# Altium footprint library WR-FPC_1.00mm.PcbLib: 115 footprints (part 2 of 8)
Each footprint in its own frame and in the unit in brackets; x right, y up, seen from the top. Pads: shape width x height; smd on the part's side, far side on the other; paste and mask are expansions set on the pad; w line width, h text height; cw(c..) or ccw(c..) is an arc to the next point about the centre after c.
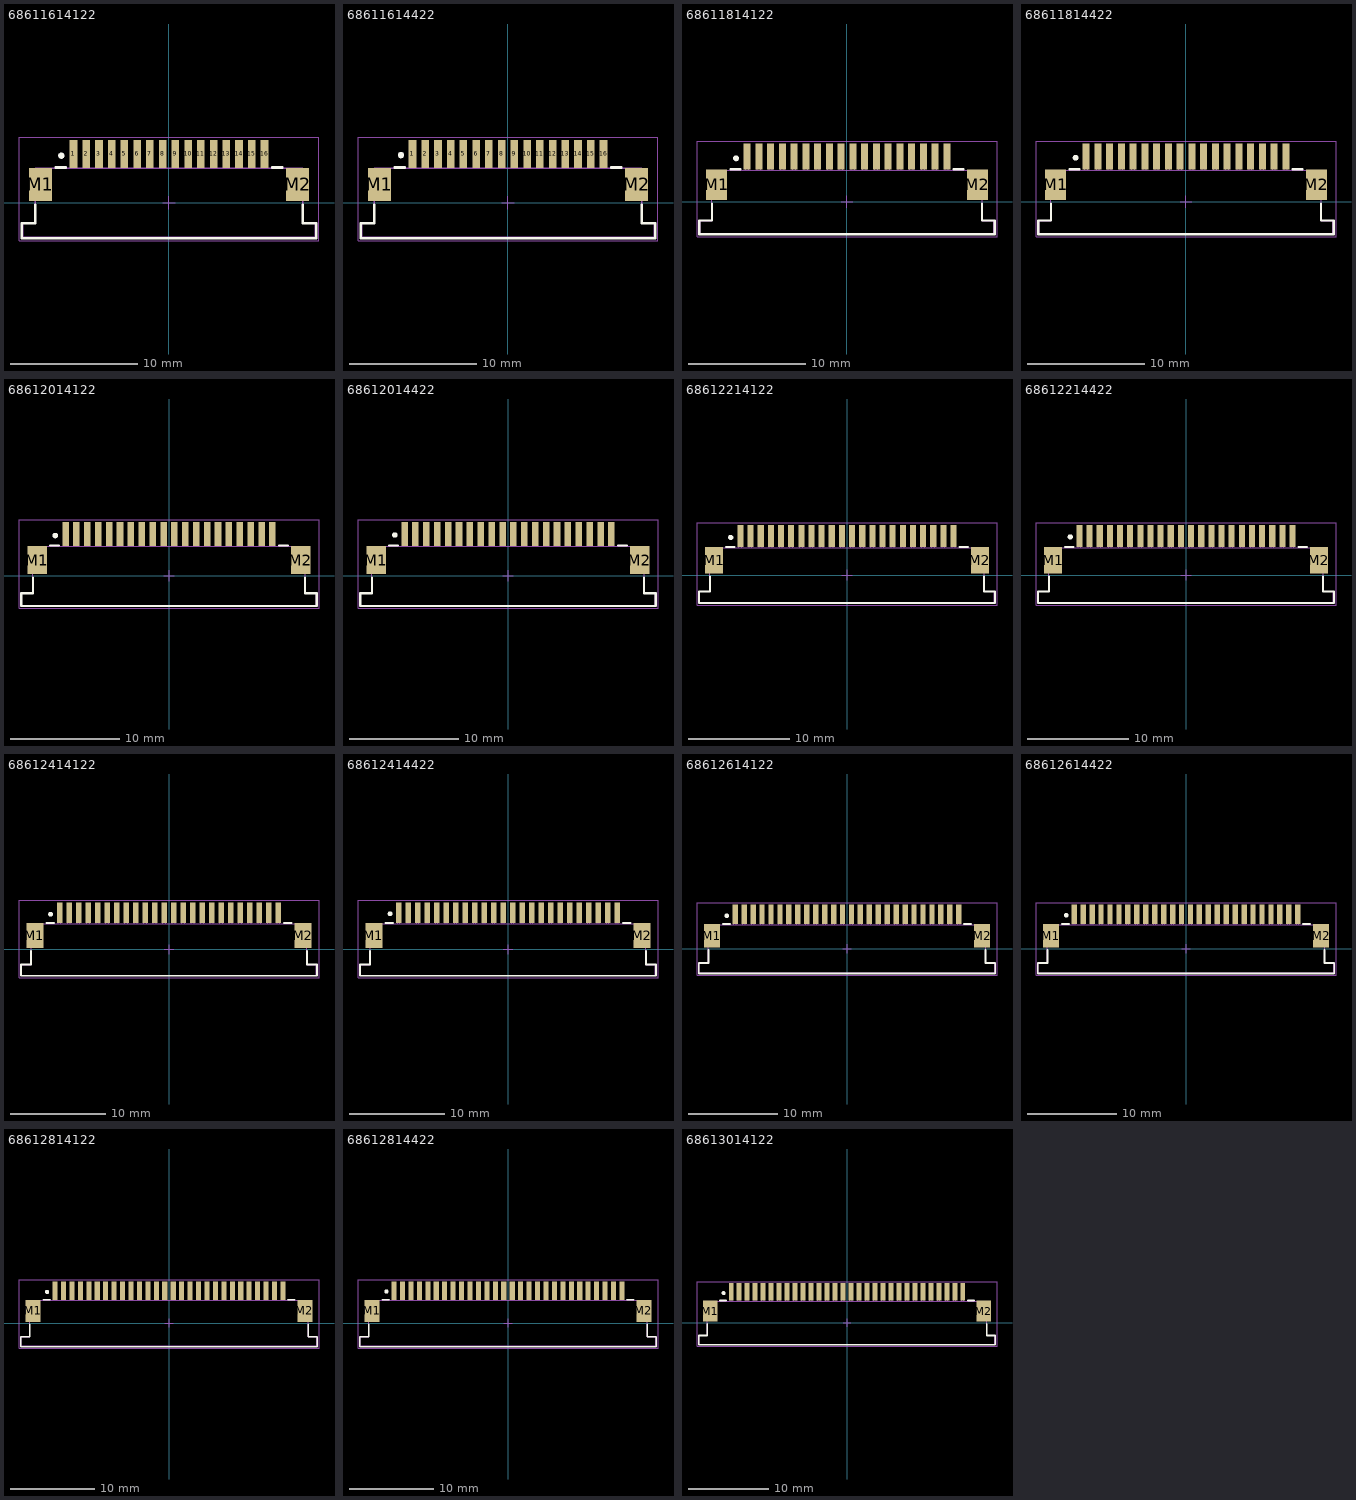
[diagram p1: the footprints below, top view; thin cyan lines are the x and y axes]

## 68611614122 [mm] "ZIF Connectors, Horizontal, Top Contact, pitch 1mm, 16p"
height 3.15
pads (18):
  rect 0.6x2.2 smd: 1(-7.5,3.85) 2(-6.5,3.85) 3(-5.5,3.85) 4(-4.5,3.85) 5(-3.5,3.85) 6(-2.5,3.85) 7(-1.5,3.85) 8(-0.5,3.85) 9(0.5,3.85) 10(1.5,3.85) 11(2.5,3.85) 12(3.5,3.85) 13(4.5,3.85) 14(5.5,3.85) 15(6.5,3.85) 16(7.5,3.85)
  rect 1.8x2.6 smd: M1(-10.1,1.45) M2(10.1,1.45)
Top Overlay:
  circle w0.25: c-8.45,3.7 r0.125
  lines w0.2: -10.5,-0.15 -10.5,-1.6 -11.575,-1.6 -11.575,-2.775 11.575,-2.775 11.575,-1.6 10.5,-1.6 10.5,-0.15 ; -8.9,2.775 -8.1,2.775 ; 8.1,2.775 8.9,2.775
Top Designator:
  text ".Designator" at -7.498,-0.5 h1.5
Top Component Outline:
  lines w0.1: -7.64,2.7 -7.64,4.4 -7.36,4.4 -7.36,2.7 ; -6.64,2.7 -6.64,4.4 -6.36,4.4 -6.36,2.7 ; -5.64,2.7 -5.64,4.4 -5.36,4.4 -5.36,2.7 ; -4.64,2.7 -4.64,4.4 -4.36,4.4 -4.36,2.7 ; -3.64,2.7 -3.64,4.4 -3.36,4.4 -3.36,2.7 ; -2.64,2.7 -2.64,4.4 -2.36,4.4 -2.36,2.7 ; -1.64,2.7 -1.64,4.4 -1.36,4.4 -1.36,2.7 ; -0.64,2.7 -0.64,4.4 -0.36,4.4 -0.36,2.7 ; 0.36,2.7 0.36,4.4 0.64,4.4 0.64,2.7 ; 1.36,2.7 1.36,4.4 1.64,4.4 1.64,2.7 ; 2.36,2.7 2.36,4.4 2.64,4.4 2.64,2.7 ; 3.36,2.7 3.36,4.4 3.64,4.4 3.64,2.7 ; 4.36,2.7 4.36,4.4 4.64,4.4 4.64,2.7 ; 5.36,2.7 5.36,4.4 5.64,4.4 5.64,2.7 ; 6.36,2.7 6.36,4.4 6.64,4.4 6.64,2.7 ; 7.36,2.7 7.36,4.4 7.64,4.4 7.64,2.7 ; -11.5,-2.7 -11.5,-1.6 -10.5,-1.6 -10.5,2.7 10.5,2.7 10.5,-1.6 11.5,-1.6 11.5,-2.7 -11.5,-2.7
Top 3D Body:
  lines w0.1: -7.64,2.7 -7.64,4.4 -7.36,4.4 -7.36,2.7 ; -6.64,2.7 -6.64,4.4 -6.36,4.4 -6.36,2.7 ; -5.64,2.7 -5.64,4.4 -5.36,4.4 -5.36,2.7 ; -4.64,2.7 -4.64,4.4 -4.36,4.4 -4.36,2.7 ; -3.64,2.7 -3.64,4.4 -3.36,4.4 -3.36,2.7 ; -2.64,2.7 -2.64,4.4 -2.36,4.4 -2.36,2.7 ; -1.64,2.7 -1.64,4.4 -1.36,4.4 -1.36,2.7 ; -0.64,2.7 -0.64,4.4 -0.36,4.4 -0.36,2.7 ; 0.36,2.7 0.36,4.4 0.64,4.4 0.64,2.7 ; 1.36,2.7 1.36,4.4 1.64,4.4 1.64,2.7 ; 2.36,2.7 2.36,4.4 2.64,4.4 2.64,2.7 ; 3.36,2.7 3.36,4.4 3.64,4.4 3.64,2.7 ; 4.36,2.7 4.36,4.4 4.64,4.4 4.64,2.7 ; 5.36,2.7 5.36,4.4 5.64,4.4 5.64,2.7 ; 6.36,2.7 6.36,4.4 6.64,4.4 6.64,2.7 ; 7.36,2.7 7.36,4.4 7.64,4.4 7.64,2.7 ; -11.5,-2.7 11.5,-2.7 11.5,-1.6 10.5,-1.6 10.5,2.7 -10.5,2.7 -10.5,-1.6 -11.5,-1.6 -11.5,-2.7
Top Courtyard:
  lines w0.05: -0.5,0 0.5,0 ; 0,-0.5 0,0.5 ; -11.775,-2.975 11.775,-2.975 11.775,5.15 -11.775,5.15 -11.775,-2.975
3D body "68611614122.stp": height 3.02, standoff 0.02, extent -11.5,-2.7 11.5,4.4

## 68611614422 [mm] "ZIF Connectors, Horizontal, Bottom Contact, pitch 1mm, 16p"
height 3.15
pads (18):
  rect 0.6x2.2 smd: 1(-7.5,3.85) 2(-6.5,3.85) 3(-5.5,3.85) 4(-4.5,3.85) 5(-3.5,3.85) 6(-2.5,3.85) 7(-1.5,3.85) 8(-0.5,3.85) 9(0.5,3.85) 10(1.5,3.85) 11(2.5,3.85) 12(3.5,3.85) 13(4.5,3.85) 14(5.5,3.85) 15(6.5,3.85) 16(7.5,3.85)
  rect 1.8x2.6 smd: M1(-10.1,1.45) M2(10.1,1.45)
Top Overlay:
  circle w0.25: c-8.4,3.75 r0.125
  lines w0.2: -10.5,-0.15 -10.5,-1.6 -11.575,-1.6 -11.575,-2.775 11.575,-2.775 11.575,-1.6 10.5,-1.6 10.5,-0.15 ; -8.9,2.775 -8.1,2.775 ; 8.1,2.775 8.9,2.775
Top Designator:
  text ".Designator" at -7.498,-0.5 h1.5
Top Component Outline:
  lines w0.1: -7.62,2.7 -7.62,4.4 -7.38,4.4 -7.38,2.7 ; -6.62,2.7 -6.62,4.4 -6.38,4.4 -6.38,2.7 ; -5.62,2.7 -5.62,4.4 -5.38,4.4 -5.38,2.7 ; -4.62,2.7 -4.62,4.4 -4.38,4.4 -4.38,2.7 ; -3.62,2.7 -3.62,4.4 -3.38,4.4 -3.38,2.7 ; -2.62,2.7 -2.62,4.4 -2.38,4.4 -2.38,2.7 ; -1.62,2.7 -1.62,4.4 -1.38,4.4 -1.38,2.7 ; -0.62,2.7 -0.62,4.4 -0.38,4.4 -0.38,2.7 ; 0.38,2.7 0.38,4.4 0.62,4.4 0.62,2.7 ; 1.38,2.7 1.38,4.4 1.62,4.4 1.62,2.7 ; 2.38,2.7 2.38,4.4 2.62,4.4 2.62,2.7 ; 3.38,2.7 3.38,4.4 3.62,4.4 3.62,2.7 ; 4.38,2.7 4.38,4.4 4.62,4.4 4.62,2.7 ; 5.38,2.7 5.38,4.4 5.62,4.4 5.62,2.7 ; 6.38,2.7 6.38,4.4 6.62,4.4 6.62,2.7 ; 7.38,2.7 7.38,4.4 7.62,4.4 7.62,2.7 ; -11.5,-2.7 11.5,-2.7 11.5,-1.6 10.5,-1.6 10.5,2.7 -10.5,2.7 -10.5,-1.6 -11.5,-1.6 -11.5,-2.7
Top 3D Body:
  lines w0.1: -7.62,2.7 -7.62,4.4 -7.38,4.4 -7.38,2.7 ; -6.62,2.7 -6.62,4.4 -6.38,4.4 -6.38,2.7 ; -5.62,2.7 -5.62,4.4 -5.38,4.4 -5.38,2.7 ; -4.62,2.7 -4.62,4.4 -4.38,4.4 -4.38,2.7 ; -3.62,2.7 -3.62,4.4 -3.38,4.4 -3.38,2.7 ; -2.62,2.7 -2.62,4.4 -2.38,4.4 -2.38,2.7 ; -1.62,2.7 -1.62,4.4 -1.38,4.4 -1.38,2.7 ; -0.62,2.7 -0.62,4.4 -0.38,4.4 -0.38,2.7 ; 0.38,2.7 0.38,4.4 0.62,4.4 0.62,2.7 ; 1.38,2.7 1.38,4.4 1.62,4.4 1.62,2.7 ; 2.38,2.7 2.38,4.4 2.62,4.4 2.62,2.7 ; 3.38,2.7 3.38,4.4 3.62,4.4 3.62,2.7 ; 4.38,2.7 4.38,4.4 4.62,4.4 4.62,2.7 ; 5.38,2.7 5.38,4.4 5.62,4.4 5.62,2.7 ; 6.38,2.7 6.38,4.4 6.62,4.4 6.62,2.7 ; 7.38,2.7 7.38,4.4 7.62,4.4 7.62,2.7 ; -11.5,-2.7 -11.5,-1.6 -10.5,-1.6 -10.5,2.7 10.5,2.7 10.5,-1.6 11.5,-1.6 11.5,-2.7 -11.5,-2.7
Top Courtyard:
  lines w0.05: -0.5,0 0.5,0 ; 0,-0.5 0,0.5 ; -11.775,-2.975 11.775,-2.975 11.775,5.15 -11.775,5.15 -11.775,-2.975
3D body "68611614422.stp": height 3.02, standoff 0.01, extent -11.5,-2.7 11.5,4.4

## 68611814122 [mm] "ZIF Connectors, Horizontal, Top Contact, pitch 1mm, 18p"
height 3.15
pads (20):
  rect 0.6x2.2 smd: 1(-8.5,3.85) 2(-7.5,3.85) 3(-6.5,3.85) 4(-5.5,3.85) 5(-4.5,3.85) 6(-3.5,3.85) 7(-2.5,3.85) 8(-1.5,3.85) 9(-0.5,3.85) 10(0.5,3.85) 11(1.5,3.85) 12(2.5,3.85) 13(3.5,3.85) 14(4.5,3.85) 15(5.5,3.85) 16(6.5,3.85) 17(7.5,3.85) 18(8.5,3.85)
  rect 1.8x2.6 smd: M1(-11.1,1.45) M2(11.1,1.45)
Top Overlay:
  circle w0.25: c-9.45,3.7 r0.125
  lines w0.2: -11.5,-0.15 -11.5,-1.6 -12.575,-1.6 -12.575,-2.775 12.575,-2.775 12.575,-1.6 11.5,-1.6 11.5,-0.15 ; -9.9,2.775 -9.1,2.775 ; 9.1,2.775 9.9,2.775
Top Designator:
  text ".Designator" at -7.498,-0.5 h1.5
Top Component Outline:
  lines w0.1: -8.64,2.7 -8.64,4.4 -8.36,4.4 -8.36,2.7 ; -7.64,2.7 -7.64,4.4 -7.36,4.4 -7.36,2.7 ; -6.64,2.7 -6.64,4.4 -6.36,4.4 -6.36,2.7 ; -5.64,2.7 -5.64,4.4 -5.36,4.4 -5.36,2.7 ; -4.64,2.7 -4.64,4.4 -4.36,4.4 -4.36,2.7 ; -3.64,2.7 -3.64,4.4 -3.36,4.4 -3.36,2.7 ; -2.64,2.7 -2.64,4.4 -2.36,4.4 -2.36,2.7 ; -1.64,2.7 -1.64,4.4 -1.36,4.4 -1.36,2.7 ; -0.64,2.7 -0.64,4.4 -0.36,4.4 -0.36,2.7 ; 0.36,2.7 0.36,4.4 0.64,4.4 0.64,2.7 ; 1.36,2.7 1.36,4.4 1.64,4.4 1.64,2.7 ; 2.36,2.7 2.36,4.4 2.64,4.4 2.64,2.7 ; 3.36,2.7 3.36,4.4 3.64,4.4 3.64,2.7 ; 4.36,2.7 4.36,4.4 4.64,4.4 4.64,2.7 ; 5.36,2.7 5.36,4.4 5.64,4.4 5.64,2.7 ; 6.36,2.7 6.36,4.4 6.64,4.4 6.64,2.7 ; 7.36,2.7 7.36,4.4 7.64,4.4 7.64,2.7 ; 8.36,2.7 8.36,4.4 8.64,4.4 8.64,2.7 ; -12.5,-2.7 12.5,-2.7 12.5,-1.6 11.5,-1.6 11.5,2.7 -11.5,2.7 -11.5,-1.6 -12.5,-1.6 -12.5,-2.7
Top 3D Body:
  lines w0.1: -8.64,2.7 -8.64,4.4 -8.36,4.4 -8.36,2.7 ; -7.64,2.7 -7.64,4.4 -7.36,4.4 -7.36,2.7 ; -6.64,2.7 -6.64,4.4 -6.36,4.4 -6.36,2.7 ; -5.64,2.7 -5.64,4.4 -5.36,4.4 -5.36,2.7 ; -4.64,2.7 -4.64,4.4 -4.36,4.4 -4.36,2.7 ; -3.64,2.7 -3.64,4.4 -3.36,4.4 -3.36,2.7 ; -2.64,2.7 -2.64,4.4 -2.36,4.4 -2.36,2.7 ; -1.64,2.7 -1.64,4.4 -1.36,4.4 -1.36,2.7 ; -0.64,2.7 -0.64,4.4 -0.36,4.4 -0.36,2.7 ; 0.36,2.7 0.36,4.4 0.64,4.4 0.64,2.7 ; 1.36,2.7 1.36,4.4 1.64,4.4 1.64,2.7 ; 2.36,2.7 2.36,4.4 2.64,4.4 2.64,2.7 ; 3.36,2.7 3.36,4.4 3.64,4.4 3.64,2.7 ; 4.36,2.7 4.36,4.4 4.64,4.4 4.64,2.7 ; 5.36,2.7 5.36,4.4 5.64,4.4 5.64,2.7 ; 6.36,2.7 6.36,4.4 6.64,4.4 6.64,2.7 ; 7.36,2.7 7.36,4.4 7.64,4.4 7.64,2.7 ; 8.36,2.7 8.36,4.4 8.64,4.4 8.64,2.7 ; -12.5,-2.7 -12.5,-1.6 -11.5,-1.6 -11.5,2.7 11.5,2.7 11.5,-1.6 12.5,-1.6 12.5,-2.7 -12.5,-2.7
Top Courtyard:
  lines w0.05: -0.5,0 0.5,0 ; 0,-0.5 0,0.5 ; -12.775,-2.975 -12.775,5.15 12.775,5.15 12.775,-2.975 -12.775,-2.975
3D body "68611814122.stp": height 3.02, standoff 0.02, extent -12.5,-2.7 12.5,4.4

## 68611814422 [mm] "ZIF Connectors, Horizontal, Bottom Contact, pitch 1mm, 18p"
height 3.15
pads (20):
  rect 0.6x2.2 smd: 1(-8.5,3.85) 2(-7.5,3.85) 3(-6.5,3.85) 4(-5.5,3.85) 5(-4.5,3.85) 6(-3.5,3.85) 7(-2.5,3.85) 8(-1.5,3.85) 9(-0.5,3.85) 10(0.5,3.85) 11(1.5,3.85) 12(2.5,3.85) 13(3.5,3.85) 14(4.5,3.85) 15(5.5,3.85) 16(6.5,3.85) 17(7.5,3.85) 18(8.5,3.85)
  rect 1.8x2.6 smd: M1(-11.1,1.45) M2(11.1,1.45)
Top Overlay:
  circle w0.25: c-9.4,3.75 r0.125
  lines w0.2: -11.5,-0.15 -11.5,-1.6 -12.575,-1.6 -12.575,-2.775 12.575,-2.775 12.575,-1.6 11.5,-1.6 11.5,-0.15 ; -9.9,2.775 -9.1,2.775 ; 9.1,2.775 9.9,2.775
Top Designator:
  text ".Designator" at -7.498,-0.5 h1.5
Top Component Outline:
  lines w0.1: -8.62,2.7 -8.62,4.4 -8.38,4.4 -8.38,2.7 ; -7.62,2.7 -7.62,4.4 -7.38,4.4 -7.38,2.7 ; -6.62,2.7 -6.62,4.4 -6.38,4.4 -6.38,2.7 ; -5.62,2.7 -5.62,4.4 -5.38,4.4 -5.38,2.7 ; -4.62,2.7 -4.62,4.4 -4.38,4.4 -4.38,2.7 ; -3.62,2.7 -3.62,4.4 -3.38,4.4 -3.38,2.7 ; -2.62,2.7 -2.62,4.4 -2.38,4.4 -2.38,2.7 ; -1.62,2.7 -1.62,4.4 -1.38,4.4 -1.38,2.7 ; -0.62,2.7 -0.62,4.4 -0.38,4.4 -0.38,2.7 ; 0.38,2.7 0.38,4.4 0.62,4.4 0.62,2.7 ; 1.38,2.7 1.38,4.4 1.62,4.4 1.62,2.7 ; 2.38,2.7 2.38,4.4 2.62,4.4 2.62,2.7 ; 3.38,2.7 3.38,4.4 3.62,4.4 3.62,2.7 ; 4.38,2.7 4.38,4.4 4.62,4.4 4.62,2.7 ; 5.38,2.7 5.38,4.4 5.62,4.4 5.62,2.7 ; 6.38,2.7 6.38,4.4 6.62,4.4 6.62,2.7 ; 7.38,2.7 7.38,4.4 7.62,4.4 7.62,2.7 ; 8.38,2.7 8.38,4.4 8.62,4.4 8.62,2.7 ; -12.5,-2.7 -12.5,-1.6 -11.5,-1.6 -11.5,2.7 11.5,2.7 11.5,-1.6 12.5,-1.6 12.5,-2.7 -12.5,-2.7
Top 3D Body:
  lines w0.1: -8.62,2.7 -8.62,4.4 -8.38,4.4 -8.38,2.7 ; -7.62,2.7 -7.62,4.4 -7.38,4.4 -7.38,2.7 ; -6.62,2.7 -6.62,4.4 -6.38,4.4 -6.38,2.7 ; -5.62,2.7 -5.62,4.4 -5.38,4.4 -5.38,2.7 ; -4.62,2.7 -4.62,4.4 -4.38,4.4 -4.38,2.7 ; -3.62,2.7 -3.62,4.4 -3.38,4.4 -3.38,2.7 ; -2.62,2.7 -2.62,4.4 -2.38,4.4 -2.38,2.7 ; -1.62,2.7 -1.62,4.4 -1.38,4.4 -1.38,2.7 ; -0.62,2.7 -0.62,4.4 -0.38,4.4 -0.38,2.7 ; 0.38,2.7 0.38,4.4 0.62,4.4 0.62,2.7 ; 1.38,2.7 1.38,4.4 1.62,4.4 1.62,2.7 ; 2.38,2.7 2.38,4.4 2.62,4.4 2.62,2.7 ; 3.38,2.7 3.38,4.4 3.62,4.4 3.62,2.7 ; 4.38,2.7 4.38,4.4 4.62,4.4 4.62,2.7 ; 5.38,2.7 5.38,4.4 5.62,4.4 5.62,2.7 ; 6.38,2.7 6.38,4.4 6.62,4.4 6.62,2.7 ; 7.38,2.7 7.38,4.4 7.62,4.4 7.62,2.7 ; 8.38,2.7 8.38,4.4 8.62,4.4 8.62,2.7 ; -12.5,-2.7 12.5,-2.7 12.5,-1.6 11.5,-1.6 11.5,2.7 -11.5,2.7 -11.5,-1.6 -12.5,-1.6 -12.5,-2.7
Top Courtyard:
  lines w0.05: -0.5,0 0.5,0 ; 0,-0.5 0,0.5 ; -12.775,-2.975 -12.775,5.15 12.775,5.15 12.775,-2.975 -12.775,-2.975
3D body "68611814422.stp": height 3.02, standoff 0.01, extent -12.5,-2.7 12.5,4.4

## 68612014122 [mm] "ZIF Connectors, Horizontal, Top Contact, pitch 1mm, 20p"
height 3.15
pads (22):
  rect 0.6x2.2 smd: 1(-9.5,3.85) 2(-8.5,3.85) 3(-7.5,3.85) 4(-6.5,3.85) 5(-5.5,3.85) 6(-4.5,3.85) 7(-3.5,3.85) 8(-2.5,3.85) 9(-1.5,3.85) 10(-0.5,3.85) 11(0.5,3.85) 12(1.5,3.85) 13(2.5,3.85) 14(3.5,3.85) 15(4.5,3.85) 16(5.5,3.85) 17(6.5,3.85) 18(7.5,3.85) 19(8.5,3.85) 20(9.5,3.85)
  rect 1.8x2.6 smd: M1(-12.1,1.45) M2(12.1,1.45)
Top Overlay:
  circle w0.25: c-10.45,3.7 r0.125
  lines w0.2: -12.5,-0.15 -12.5,-1.6 -13.575,-1.6 -13.575,-2.775 13.575,-2.775 13.575,-1.6 12.5,-1.6 12.5,-0.15 ; -10.9,2.775 -10.1,2.775 ; 10.1,2.775 10.9,2.775
Top Designator:
  text ".Designator" at -7.498,-0.5 h1.5
Top Component Outline:
  lines w0.1: -9.64,2.7 -9.64,4.4 -9.36,4.4 -9.36,2.7 ; -8.64,2.7 -8.64,4.4 -8.36,4.4 -8.36,2.7 ; -7.64,2.7 -7.64,4.4 -7.36,4.4 -7.36,2.7 ; -6.64,2.7 -6.64,4.4 -6.36,4.4 -6.36,2.7 ; -5.64,2.7 -5.64,4.4 -5.36,4.4 -5.36,2.7 ; -4.64,2.7 -4.64,4.4 -4.36,4.4 -4.36,2.7 ; -3.64,2.7 -3.64,4.4 -3.36,4.4 -3.36,2.7 ; -2.64,2.7 -2.64,4.4 -2.36,4.4 -2.36,2.7 ; -1.64,2.7 -1.64,4.4 -1.36,4.4 -1.36,2.7 ; -0.64,2.7 -0.64,4.4 -0.36,4.4 -0.36,2.7 ; 0.36,2.7 0.36,4.4 0.64,4.4 0.64,2.7 ; 1.36,2.7 1.36,4.4 1.64,4.4 1.64,2.7 ; 2.36,2.7 2.36,4.4 2.64,4.4 2.64,2.7 ; 3.36,2.7 3.36,4.4 3.64,4.4 3.64,2.7 ; 4.36,2.7 4.36,4.4 4.64,4.4 4.64,2.7 ; 5.36,2.7 5.36,4.4 5.64,4.4 5.64,2.7 ; 6.36,2.7 6.36,4.4 6.64,4.4 6.64,2.7 ; 7.36,2.7 7.36,4.4 7.64,4.4 7.64,2.7 ; 8.36,2.7 8.36,4.4 8.64,4.4 8.64,2.7 ; 9.36,2.7 9.36,4.4 9.64,4.4 9.64,2.7 ; -13.5,-2.7 13.5,-2.7 13.5,-1.6 12.5,-1.6 12.5,2.7 -12.5,2.7 -12.5,-1.6 -13.5,-1.6 -13.5,-2.7
Top 3D Body:
  lines w0.1: -9.64,2.7 -9.64,4.4 -9.36,4.4 -9.36,2.7 ; -8.64,2.7 -8.64,4.4 -8.36,4.4 -8.36,2.7 ; -7.64,2.7 -7.64,4.4 -7.36,4.4 -7.36,2.7 ; -6.64,2.7 -6.64,4.4 -6.36,4.4 -6.36,2.7 ; -5.64,2.7 -5.64,4.4 -5.36,4.4 -5.36,2.7 ; -4.64,2.7 -4.64,4.4 -4.36,4.4 -4.36,2.7 ; -3.64,2.7 -3.64,4.4 -3.36,4.4 -3.36,2.7 ; -2.64,2.7 -2.64,4.4 -2.36,4.4 -2.36,2.7 ; -1.64,2.7 -1.64,4.4 -1.36,4.4 -1.36,2.7 ; -0.64,2.7 -0.64,4.4 -0.36,4.4 -0.36,2.7 ; 0.36,2.7 0.36,4.4 0.64,4.4 0.64,2.7 ; 1.36,2.7 1.36,4.4 1.64,4.4 1.64,2.7 ; 2.36,2.7 2.36,4.4 2.64,4.4 2.64,2.7 ; 3.36,2.7 3.36,4.4 3.64,4.4 3.64,2.7 ; 4.36,2.7 4.36,4.4 4.64,4.4 4.64,2.7 ; 5.36,2.7 5.36,4.4 5.64,4.4 5.64,2.7 ; 6.36,2.7 6.36,4.4 6.64,4.4 6.64,2.7 ; 7.36,2.7 7.36,4.4 7.64,4.4 7.64,2.7 ; 8.36,2.7 8.36,4.4 8.64,4.4 8.64,2.7 ; 9.36,2.7 9.36,4.4 9.64,4.4 9.64,2.7 ; -13.5,-2.7 -13.5,-1.6 -12.5,-1.6 -12.5,2.7 12.5,2.7 12.5,-1.6 13.5,-1.6 13.5,-2.7 -13.5,-2.7
Top Courtyard:
  lines w0.05: -0.5,0 0.5,0 ; 0,-0.5 0,0.5 ; -13.775,-2.975 -13.775,5.15 13.775,5.15 13.775,-2.975 -13.775,-2.975
3D body "68612014122.stp": height 3.02, standoff 0.02, extent -13.5,-2.7 13.5,4.4

## 68612014422 [mm] "ZIF Connectors, Horizontal, Bottom Contact, pitch 1mm, 20p"
height 3.15
pads (22):
  rect 0.6x2.2 smd: 1(-9.5,3.85) 2(-8.5,3.85) 3(-7.5,3.85) 4(-6.5,3.85) 5(-5.5,3.85) 6(-4.5,3.85) 7(-3.5,3.85) 8(-2.5,3.85) 9(-1.5,3.85) 10(-0.5,3.85) 11(0.5,3.85) 12(1.5,3.85) 13(2.5,3.85) 14(3.5,3.85) 15(4.5,3.85) 16(5.5,3.85) 17(6.5,3.85) 18(7.5,3.85) 19(8.5,3.85) 20(9.5,3.85)
  rect 1.8x2.6 smd: M1(-12.1,1.45) M2(12.1,1.45)
Top Overlay:
  circle w0.25: c-10.4,3.75 r0.125
  lines w0.2: -12.5,-0.15 -12.5,-1.6 -13.575,-1.6 -13.575,-2.775 13.575,-2.775 13.575,-1.6 12.5,-1.6 12.5,-0.15 ; -10.9,2.775 -10.1,2.775 ; 10.1,2.775 10.9,2.775
Top Designator:
  text ".Designator" at -7.498,-0.5 h1.5
Top Component Outline:
  lines w0.1: -9.62,2.7 -9.62,4.4 -9.38,4.4 -9.38,2.7 ; -8.62,2.7 -8.62,4.4 -8.38,4.4 -8.38,2.7 ; -7.62,2.7 -7.62,4.4 -7.38,4.4 -7.38,2.7 ; -6.62,2.7 -6.62,4.4 -6.38,4.4 -6.38,2.7 ; -5.62,2.7 -5.62,4.4 -5.38,4.4 -5.38,2.7 ; -4.62,2.7 -4.62,4.4 -4.38,4.4 -4.38,2.7 ; -3.62,2.7 -3.62,4.4 -3.38,4.4 -3.38,2.7 ; -2.62,2.7 -2.62,4.4 -2.38,4.4 -2.38,2.7 ; -1.62,2.7 -1.62,4.4 -1.38,4.4 -1.38,2.7 ; -0.62,2.7 -0.62,4.4 -0.38,4.4 -0.38,2.7 ; 0.38,2.7 0.38,4.4 0.62,4.4 0.62,2.7 ; 1.38,2.7 1.38,4.4 1.62,4.4 1.62,2.7 ; 2.38,2.7 2.38,4.4 2.62,4.4 2.62,2.7 ; 3.38,2.7 3.38,4.4 3.62,4.4 3.62,2.7 ; 4.38,2.7 4.38,4.4 4.62,4.4 4.62,2.7 ; 5.38,2.7 5.38,4.4 5.62,4.4 5.62,2.7 ; 6.38,2.7 6.38,4.4 6.62,4.4 6.62,2.7 ; 7.38,2.7 7.38,4.4 7.62,4.4 7.62,2.7 ; 8.38,2.7 8.38,4.4 8.62,4.4 8.62,2.7 ; 9.38,2.7 9.38,4.4 9.62,4.4 9.62,2.7 ; -13.5,-2.7 13.5,-2.7 13.5,-1.6 12.5,-1.6 12.5,2.7 -12.5,2.7 -12.5,-1.6 -13.5,-1.6 -13.5,-2.7
Top 3D Body:
  lines w0.1: -9.62,2.7 -9.62,4.4 -9.38,4.4 -9.38,2.7 ; -8.62,2.7 -8.62,4.4 -8.38,4.4 -8.38,2.7 ; -7.62,2.7 -7.62,4.4 -7.38,4.4 -7.38,2.7 ; -6.62,2.7 -6.62,4.4 -6.38,4.4 -6.38,2.7 ; -5.62,2.7 -5.62,4.4 -5.38,4.4 -5.38,2.7 ; -4.62,2.7 -4.62,4.4 -4.38,4.4 -4.38,2.7 ; -3.62,2.7 -3.62,4.4 -3.38,4.4 -3.38,2.7 ; -2.62,2.7 -2.62,4.4 -2.38,4.4 -2.38,2.7 ; -1.62,2.7 -1.62,4.4 -1.38,4.4 -1.38,2.7 ; -0.62,2.7 -0.62,4.4 -0.38,4.4 -0.38,2.7 ; 0.38,2.7 0.38,4.4 0.62,4.4 0.62,2.7 ; 1.38,2.7 1.38,4.4 1.62,4.4 1.62,2.7 ; 2.38,2.7 2.38,4.4 2.62,4.4 2.62,2.7 ; 3.38,2.7 3.38,4.4 3.62,4.4 3.62,2.7 ; 4.38,2.7 4.38,4.4 4.62,4.4 4.62,2.7 ; 5.38,2.7 5.38,4.4 5.62,4.4 5.62,2.7 ; 6.38,2.7 6.38,4.4 6.62,4.4 6.62,2.7 ; 7.38,2.7 7.38,4.4 7.62,4.4 7.62,2.7 ; 8.38,2.7 8.38,4.4 8.62,4.4 8.62,2.7 ; 9.38,2.7 9.38,4.4 9.62,4.4 9.62,2.7 ; -13.5,-2.7 -13.5,-1.6 -12.5,-1.6 -12.5,2.7 12.5,2.7 12.5,-1.6 13.5,-1.6 13.5,-2.7 -13.5,-2.7
Top Courtyard:
  lines w0.05: -0.5,0 0.5,0 ; 0,-0.5 0,0.5 ; -13.775,-2.975 13.775,-2.975 13.775,5.15 -13.775,5.15 -13.775,-2.975
3D body "68612014422.stp": height 3.02, standoff 0.01, extent -13.5,-2.7 13.5,4.4

## 68612214122 [mm] "ZIF Connectors, Horizontal, Top Contact, pitch 1mm, 22p"
height 3.15
pads (24):
  rect 0.6x2.2 smd: 1(-10.5,3.85) 2(-9.5,3.85) 3(-8.5,3.85) 4(-7.5,3.85) 5(-6.5,3.85) 6(-5.5,3.85) 7(-4.5,3.85) 8(-3.5,3.85) 9(-2.5,3.85) 10(-1.5,3.85) 11(-0.5,3.85) 12(0.5,3.85) 13(1.5,3.85) 14(2.5,3.85) 15(3.5,3.85) 16(4.5,3.85) 17(5.5,3.85) 18(6.5,3.85) 19(7.5,3.85) 20(8.5,3.85) 21(9.5,3.85) 22(10.5,3.85)
  rect 1.8x2.6 smd: M1(-13.1,1.45) M2(13.1,1.45)
Top Overlay:
  circle w0.25: c-11.45,3.7 r0.125
  lines w0.2: -13.5,-0.15 -13.5,-1.6 -14.575,-1.6 -14.575,-2.775 14.575,-2.775 14.575,-1.6 13.5,-1.6 13.5,-0.15 ; -11.9,2.775 -11.1,2.775 ; 11.1,2.775 11.9,2.775
Top Designator:
  text ".Designator" at -7.498,-0.5 h1.5
Top Component Outline:
  lines w0.1: -10.64,2.7 -10.64,4.4 -10.36,4.4 -10.36,2.7 ; -9.64,2.7 -9.64,4.4 -9.36,4.4 -9.36,2.7 ; -8.64,2.7 -8.64,4.4 -8.36,4.4 -8.36,2.7 ; -7.64,2.7 -7.64,4.4 -7.36,4.4 -7.36,2.7 ; -6.64,2.7 -6.64,4.4 -6.36,4.4 -6.36,2.7 ; -5.64,2.7 -5.64,4.4 -5.36,4.4 -5.36,2.7 ; -4.64,2.7 -4.64,4.4 -4.36,4.4 -4.36,2.7 ; -3.64,2.7 -3.64,4.4 -3.36,4.4 -3.36,2.7 ; -2.64,2.7 -2.64,4.4 -2.36,4.4 -2.36,2.7 ; -1.64,2.7 -1.64,4.4 -1.36,4.4 -1.36,2.7 ; -0.64,2.7 -0.64,4.4 -0.36,4.4 -0.36,2.7 ; 0.36,2.7 0.36,4.4 0.64,4.4 0.64,2.7 ; 1.36,2.7 1.36,4.4 1.64,4.4 1.64,2.7 ; 2.36,2.7 2.36,4.4 2.64,4.4 2.64,2.7 ; 3.36,2.7 3.36,4.4 3.64,4.4 3.64,2.7 ; 4.36,2.7 4.36,4.4 4.64,4.4 4.64,2.7 ; 5.36,2.7 5.36,4.4 5.64,4.4 5.64,2.7 ; 6.36,2.7 6.36,4.4 6.64,4.4 6.64,2.7 ; 7.36,2.7 7.36,4.4 7.64,4.4 7.64,2.7 ; 8.36,2.7 8.36,4.4 8.64,4.4 8.64,2.7 ; 9.36,2.7 9.36,4.4 9.64,4.4 9.64,2.7 ; 10.36,2.7 10.36,4.4 10.64,4.4 10.64,2.7 ; -14.5,-2.7 -14.5,-1.6 -13.5,-1.6 -13.5,2.7 13.5,2.7 13.5,-1.6 14.5,-1.6 14.5,-2.7 -14.5,-2.7
Top 3D Body:
  lines w0.1: -10.64,2.7 -10.64,4.4 -10.36,4.4 -10.36,2.7 ; -9.64,2.7 -9.64,4.4 -9.36,4.4 -9.36,2.7 ; -8.64,2.7 -8.64,4.4 -8.36,4.4 -8.36,2.7 ; -7.64,2.7 -7.64,4.4 -7.36,4.4 -7.36,2.7 ; -6.64,2.7 -6.64,4.4 -6.36,4.4 -6.36,2.7 ; -5.64,2.7 -5.64,4.4 -5.36,4.4 -5.36,2.7 ; -4.64,2.7 -4.64,4.4 -4.36,4.4 -4.36,2.7 ; -3.64,2.7 -3.64,4.4 -3.36,4.4 -3.36,2.7 ; -2.64,2.7 -2.64,4.4 -2.36,4.4 -2.36,2.7 ; -1.64,2.7 -1.64,4.4 -1.36,4.4 -1.36,2.7 ; -0.64,2.7 -0.64,4.4 -0.36,4.4 -0.36,2.7 ; 0.36,2.7 0.36,4.4 0.64,4.4 0.64,2.7 ; 1.36,2.7 1.36,4.4 1.64,4.4 1.64,2.7 ; 2.36,2.7 2.36,4.4 2.64,4.4 2.64,2.7 ; 3.36,2.7 3.36,4.4 3.64,4.4 3.64,2.7 ; 4.36,2.7 4.36,4.4 4.64,4.4 4.64,2.7 ; 5.36,2.7 5.36,4.4 5.64,4.4 5.64,2.7 ; 6.36,2.7 6.36,4.4 6.64,4.4 6.64,2.7 ; 7.36,2.7 7.36,4.4 7.64,4.4 7.64,2.7 ; 8.36,2.7 8.36,4.4 8.64,4.4 8.64,2.7 ; 9.36,2.7 9.36,4.4 9.64,4.4 9.64,2.7 ; 10.36,2.7 10.36,4.4 10.64,4.4 10.64,2.7 ; -14.5,-2.7 14.5,-2.7 14.5,-1.6 13.5,-1.6 13.5,2.7 -13.5,2.7 -13.5,-1.6 -14.5,-1.6 -14.5,-2.7
Top Courtyard:
  lines w0.05: -0.5,0 0.5,0 ; 0,-0.5 0,0.5 ; -14.775,-2.975 14.775,-2.975 14.775,5.15 -14.775,5.15 -14.775,-2.975
3D body "68612214122.stp": height 3.02, standoff 0.02, extent -14.5,-2.7 14.5,4.4

## 68612214422 [mm] "ZIF Connectors, Horizontal, Bottom Contact, pitch 1mm, 22p"
height 3.15
pads (24):
  rect 0.6x2.2 smd: 1(-10.5,3.85) 2(-9.5,3.85) 3(-8.5,3.85) 4(-7.5,3.85) 5(-6.5,3.85) 6(-5.5,3.85) 7(-4.5,3.85) 8(-3.5,3.85) 9(-2.5,3.85) 10(-1.5,3.85) 11(-0.5,3.85) 12(0.5,3.85) 13(1.5,3.85) 14(2.5,3.85) 15(3.5,3.85) 16(4.5,3.85) 17(5.5,3.85) 18(6.5,3.85) 19(7.5,3.85) 20(8.5,3.85) 21(9.5,3.85) 22(10.5,3.85)
  rect 1.8x2.6 smd: M1(-13.1,1.45) M2(13.1,1.45)
Top Overlay:
  circle w0.25: c-11.4,3.75 r0.125
  lines w0.2: -13.5,-0.15 -13.5,-1.6 -14.575,-1.6 -14.575,-2.775 14.575,-2.775 14.575,-1.6 13.5,-1.6 13.5,-0.15 ; -11.9,2.775 -11.1,2.775 ; 11.1,2.775 11.9,2.775
Top Designator:
  text ".Designator" at -7.498,-0.5 h1.5
Top Component Outline:
  lines w0.1: -10.62,2.7 -10.62,4.4 -10.38,4.4 -10.38,2.7 ; -9.62,2.7 -9.62,4.4 -9.38,4.4 -9.38,2.7 ; -8.62,2.7 -8.62,4.4 -8.38,4.4 -8.38,2.7 ; -7.62,2.7 -7.62,4.4 -7.38,4.4 -7.38,2.7 ; -6.62,2.7 -6.62,4.4 -6.38,4.4 -6.38,2.7 ; -5.62,2.7 -5.62,4.4 -5.38,4.4 -5.38,2.7 ; -4.62,2.7 -4.62,4.4 -4.38,4.4 -4.38,2.7 ; -3.62,2.7 -3.62,4.4 -3.38,4.4 -3.38,2.7 ; -2.62,2.7 -2.62,4.4 -2.38,4.4 -2.38,2.7 ; -1.62,2.7 -1.62,4.4 -1.38,4.4 -1.38,2.7 ; -0.62,2.7 -0.62,4.4 -0.38,4.4 -0.38,2.7 ; 0.38,2.7 0.38,4.4 0.62,4.4 0.62,2.7 ; 1.38,2.7 1.38,4.4 1.62,4.4 1.62,2.7 ; 2.38,2.7 2.38,4.4 2.62,4.4 2.62,2.7 ; 3.38,2.7 3.38,4.4 3.62,4.4 3.62,2.7 ; 4.38,2.7 4.38,4.4 4.62,4.4 4.62,2.7 ; 5.38,2.7 5.38,4.4 5.62,4.4 5.62,2.7 ; 6.38,2.7 6.38,4.4 6.62,4.4 6.62,2.7 ; 7.38,2.7 7.38,4.4 7.62,4.4 7.62,2.7 ; 8.38,2.7 8.38,4.4 8.62,4.4 8.62,2.7 ; 9.38,2.7 9.38,4.4 9.62,4.4 9.62,2.7 ; 10.38,2.7 10.38,4.4 10.62,4.4 10.62,2.7 ; -14.5,-2.7 -14.5,-1.6 -13.5,-1.6 -13.5,2.7 13.5,2.7 13.5,-1.6 14.5,-1.6 14.5,-2.7 -14.5,-2.7
Top 3D Body:
  lines w0.1: -10.62,2.7 -10.62,4.4 -10.38,4.4 -10.38,2.7 ; -9.62,2.7 -9.62,4.4 -9.38,4.4 -9.38,2.7 ; -8.62,2.7 -8.62,4.4 -8.38,4.4 -8.38,2.7 ; -7.62,2.7 -7.62,4.4 -7.38,4.4 -7.38,2.7 ; -6.62,2.7 -6.62,4.4 -6.38,4.4 -6.38,2.7 ; -5.62,2.7 -5.62,4.4 -5.38,4.4 -5.38,2.7 ; -4.62,2.7 -4.62,4.4 -4.38,4.4 -4.38,2.7 ; -3.62,2.7 -3.62,4.4 -3.38,4.4 -3.38,2.7 ; -2.62,2.7 -2.62,4.4 -2.38,4.4 -2.38,2.7 ; -1.62,2.7 -1.62,4.4 -1.38,4.4 -1.38,2.7 ; -0.62,2.7 -0.62,4.4 -0.38,4.4 -0.38,2.7 ; 0.38,2.7 0.38,4.4 0.62,4.4 0.62,2.7 ; 1.38,2.7 1.38,4.4 1.62,4.4 1.62,2.7 ; 2.38,2.7 2.38,4.4 2.62,4.4 2.62,2.7 ; 3.38,2.7 3.38,4.4 3.62,4.4 3.62,2.7 ; 4.38,2.7 4.38,4.4 4.62,4.4 4.62,2.7 ; 5.38,2.7 5.38,4.4 5.62,4.4 5.62,2.7 ; 6.38,2.7 6.38,4.4 6.62,4.4 6.62,2.7 ; 7.38,2.7 7.38,4.4 7.62,4.4 7.62,2.7 ; 8.38,2.7 8.38,4.4 8.62,4.4 8.62,2.7 ; 9.38,2.7 9.38,4.4 9.62,4.4 9.62,2.7 ; 10.38,2.7 10.38,4.4 10.62,4.4 10.62,2.7 ; -14.5,-2.7 14.5,-2.7 14.5,-1.6 13.5,-1.6 13.5,2.7 -13.5,2.7 -13.5,-1.6 -14.5,-1.6 -14.5,-2.7
Top Courtyard:
  lines w0.05: -0.5,0 0.5,0 ; 0,-0.5 0,0.5 ; -14.775,-2.975 -14.775,5.15 14.775,5.15 14.775,-2.975 -14.775,-2.975
3D body "68612214422.stp": height 3.02, standoff 0.01, extent -14.5,-2.7 14.5,4.4

## 68612414122 [mm] "ZIF Connectors, Horizontal, Top Contact, pitch 1mm, 24p"
height 3.15
pads (26):
  rect 0.6x2.2 smd: 1(-11.5,3.85) 2(-10.5,3.85) 3(-9.5,3.85) 4(-8.5,3.85) 5(-7.5,3.85) 6(-6.5,3.85) 7(-5.5,3.85) 8(-4.5,3.85) 9(-3.5,3.85) 10(-2.5,3.85) 11(-1.5,3.85) 12(-0.5,3.85) 13(0.5,3.85) 14(1.5,3.85) 15(2.5,3.85) 16(3.5,3.85) 17(4.5,3.85) 18(5.5,3.85) 19(6.5,3.85) 20(7.5,3.85) 21(8.5,3.85) 22(9.5,3.85) 23(10.5,3.85) 24(11.5,3.85)
  rect 1.8x2.6 smd: M1(-14.1,1.45) M2(14.1,1.45)
Top Overlay:
  circle w0.25: c-12.45,3.7 r0.125
  lines w0.2: -14.5,-0.15 -14.5,-1.6 -15.575,-1.6 -15.575,-2.775 15.575,-2.775 15.575,-1.6 14.5,-1.6 14.5,-0.15 ; -12.9,2.775 -12.1,2.775 ; 12.1,2.775 12.9,2.775
Top Designator:
  text ".Designator" at -7.498,-0.5 h1.5
Top Component Outline:
  lines w0.1: -11.64,2.7 -11.64,4.4 -11.36,4.4 -11.36,2.7 ; -10.64,2.7 -10.64,4.4 -10.36,4.4 -10.36,2.7 ; -9.64,2.7 -9.64,4.4 -9.36,4.4 -9.36,2.7 ; -8.64,2.7 -8.64,4.4 -8.36,4.4 -8.36,2.7 ; -7.64,2.7 -7.64,4.4 -7.36,4.4 -7.36,2.7 ; -6.64,2.7 -6.64,4.4 -6.36,4.4 -6.36,2.7 ; -5.64,2.7 -5.64,4.4 -5.36,4.4 -5.36,2.7 ; -4.64,2.7 -4.64,4.4 -4.36,4.4 -4.36,2.7 ; -3.64,2.7 -3.64,4.4 -3.36,4.4 -3.36,2.7 ; -2.64,2.7 -2.64,4.4 -2.36,4.4 -2.36,2.7 ; -1.64,2.7 -1.64,4.4 -1.36,4.4 -1.36,2.7 ; -0.64,2.7 -0.64,4.4 -0.36,4.4 -0.36,2.7 ; 0.36,2.7 0.36,4.4 0.64,4.4 0.64,2.7 ; 1.36,2.7 1.36,4.4 1.64,4.4 1.64,2.7 ; 2.36,2.7 2.36,4.4 2.64,4.4 2.64,2.7 ; 3.36,2.7 3.36,4.4 3.64,4.4 3.64,2.7 ; 4.36,2.7 4.36,4.4 4.64,4.4 4.64,2.7 ; 5.36,2.7 5.36,4.4 5.64,4.4 5.64,2.7 ; 6.36,2.7 6.36,4.4 6.64,4.4 6.64,2.7 ; 7.36,2.7 7.36,4.4 7.64,4.4 7.64,2.7 ; 8.36,2.7 8.36,4.4 8.64,4.4 8.64,2.7 ; 9.36,2.7 9.36,4.4 9.64,4.4 9.64,2.7 ; 10.36,2.7 10.36,4.4 10.64,4.4 10.64,2.7 ; 11.36,2.7 11.36,4.4 11.64,4.4 11.64,2.7 ; -15.5,-2.7 -15.5,-1.6 -14.5,-1.6 -14.5,2.7 14.5,2.7 14.5,-1.6 15.5,-1.6 15.5,-2.7 -15.5,-2.7
Top 3D Body:
  lines w0.1: -11.64,2.7 -11.64,4.4 -11.36,4.4 -11.36,2.7 ; -10.64,2.7 -10.64,4.4 -10.36,4.4 -10.36,2.7 ; -9.64,2.7 -9.64,4.4 -9.36,4.4 -9.36,2.7 ; -8.64,2.7 -8.64,4.4 -8.36,4.4 -8.36,2.7 ; -7.64,2.7 -7.64,4.4 -7.36,4.4 -7.36,2.7 ; -6.64,2.7 -6.64,4.4 -6.36,4.4 -6.36,2.7 ; -5.64,2.7 -5.64,4.4 -5.36,4.4 -5.36,2.7 ; -4.64,2.7 -4.64,4.4 -4.36,4.4 -4.36,2.7 ; -3.64,2.7 -3.64,4.4 -3.36,4.4 -3.36,2.7 ; -2.64,2.7 -2.64,4.4 -2.36,4.4 -2.36,2.7 ; -1.64,2.7 -1.64,4.4 -1.36,4.4 -1.36,2.7 ; -0.64,2.7 -0.64,4.4 -0.36,4.4 -0.36,2.7 ; 0.36,2.7 0.36,4.4 0.64,4.4 0.64,2.7 ; 1.36,2.7 1.36,4.4 1.64,4.4 1.64,2.7 ; 2.36,2.7 2.36,4.4 2.64,4.4 2.64,2.7 ; 3.36,2.7 3.36,4.4 3.64,4.4 3.64,2.7 ; 4.36,2.7 4.36,4.4 4.64,4.4 4.64,2.7 ; 5.36,2.7 5.36,4.4 5.64,4.4 5.64,2.7 ; 6.36,2.7 6.36,4.4 6.64,4.4 6.64,2.7 ; 7.36,2.7 7.36,4.4 7.64,4.4 7.64,2.7 ; 8.36,2.7 8.36,4.4 8.64,4.4 8.64,2.7 ; 9.36,2.7 9.36,4.4 9.64,4.4 9.64,2.7 ; 10.36,2.7 10.36,4.4 10.64,4.4 10.64,2.7 ; 11.36,2.7 11.36,4.4 11.64,4.4 11.64,2.7 ; -15.5,-2.7 15.5,-2.7 15.5,-1.6 14.5,-1.6 14.5,2.7 -14.5,2.7 -14.5,-1.6 -15.5,-1.6 -15.5,-2.7
Top Courtyard:
  lines w0.05: -0.5,0 0.5,0 ; 0,-0.5 0,0.5 ; -15.775,-2.975 15.775,-2.975 15.775,5.15 -15.775,5.15 -15.775,-2.975
3D body "68612414122.stp": height 3.02, standoff 0.02, extent -15.5,-2.7 15.5,4.4

## 68612414422 [mm] "ZIF Connectors, Horizontal, Bottom Contact, pitch 1mm, 24p"
height 3.15
pads (26):
  rect 0.6x2.2 smd: 1(-11.5,3.85) 2(-10.5,3.85) 3(-9.5,3.85) 4(-8.5,3.85) 5(-7.5,3.85) 6(-6.5,3.85) 7(-5.5,3.85) 8(-4.5,3.85) 9(-3.5,3.85) 10(-2.5,3.85) 11(-1.5,3.85) 12(-0.5,3.85) 13(0.5,3.85) 14(1.5,3.85) 15(2.5,3.85) 16(3.5,3.85) 17(4.5,3.85) 18(5.5,3.85) 19(6.5,3.85) 20(7.5,3.85) 21(8.5,3.85) 22(9.5,3.85) 23(10.5,3.85) 24(11.5,3.85)
  rect 1.8x2.6 smd: M1(-14.1,1.45) M2(14.1,1.45)
Top Overlay:
  circle w0.25: c-12.4,3.75 r0.125
  lines w0.2: -14.5,-0.15 -14.5,-1.6 -15.575,-1.6 -15.575,-2.775 15.575,-2.775 15.575,-1.6 14.5,-1.6 14.5,-0.15 ; -12.9,2.775 -12.1,2.775 ; 12.1,2.775 12.9,2.775
Top Designator:
  text ".Designator" at -7.498,-0.5 h1.5
Top Component Outline:
  lines w0.1: -11.62,2.7 -11.62,4.4 -11.38,4.4 -11.38,2.7 ; -10.62,2.7 -10.62,4.4 -10.38,4.4 -10.38,2.7 ; -9.62,2.7 -9.62,4.4 -9.38,4.4 -9.38,2.7 ; -8.62,2.7 -8.62,4.4 -8.38,4.4 -8.38,2.7 ; -7.62,2.7 -7.62,4.4 -7.38,4.4 -7.38,2.7 ; -6.62,2.7 -6.62,4.4 -6.38,4.4 -6.38,2.7 ; -5.62,2.7 -5.62,4.4 -5.38,4.4 -5.38,2.7 ; -4.62,2.7 -4.62,4.4 -4.38,4.4 -4.38,2.7 ; -3.62,2.7 -3.62,4.4 -3.38,4.4 -3.38,2.7 ; -2.62,2.7 -2.62,4.4 -2.38,4.4 -2.38,2.7 ; -1.62,2.7 -1.62,4.4 -1.38,4.4 -1.38,2.7 ; -0.62,2.7 -0.62,4.4 -0.38,4.4 -0.38,2.7 ; 0.38,2.7 0.38,4.4 0.62,4.4 0.62,2.7 ; 1.38,2.7 1.38,4.4 1.62,4.4 1.62,2.7 ; 2.38,2.7 2.38,4.4 2.62,4.4 2.62,2.7 ; 3.38,2.7 3.38,4.4 3.62,4.4 3.62,2.7 ; 4.38,2.7 4.38,4.4 4.62,4.4 4.62,2.7 ; 5.38,2.7 5.38,4.4 5.62,4.4 5.62,2.7 ; 6.38,2.7 6.38,4.4 6.62,4.4 6.62,2.7 ; 7.38,2.7 7.38,4.4 7.62,4.4 7.62,2.7 ; 8.38,2.7 8.38,4.4 8.62,4.4 8.62,2.7 ; 9.38,2.7 9.38,4.4 9.62,4.4 9.62,2.7 ; 10.38,2.7 10.38,4.4 10.62,4.4 10.62,2.7 ; 11.38,2.7 11.38,4.4 11.62,4.4 11.62,2.7 ; -15.5,-2.7 -15.5,-1.6 -14.5,-1.6 -14.5,2.7 14.5,2.7 14.5,-1.6 15.5,-1.6 15.5,-2.7 -15.5,-2.7
Top 3D Body:
  lines w0.1: -11.62,2.7 -11.62,4.4 -11.38,4.4 -11.38,2.7 ; -10.62,2.7 -10.62,4.4 -10.38,4.4 -10.38,2.7 ; -9.62,2.7 -9.62,4.4 -9.38,4.4 -9.38,2.7 ; -8.62,2.7 -8.62,4.4 -8.38,4.4 -8.38,2.7 ; -7.62,2.7 -7.62,4.4 -7.38,4.4 -7.38,2.7 ; -6.62,2.7 -6.62,4.4 -6.38,4.4 -6.38,2.7 ; -5.62,2.7 -5.62,4.4 -5.38,4.4 -5.38,2.7 ; -4.62,2.7 -4.62,4.4 -4.38,4.4 -4.38,2.7 ; -3.62,2.7 -3.62,4.4 -3.38,4.4 -3.38,2.7 ; -2.62,2.7 -2.62,4.4 -2.38,4.4 -2.38,2.7 ; -1.62,2.7 -1.62,4.4 -1.38,4.4 -1.38,2.7 ; -0.62,2.7 -0.62,4.4 -0.38,4.4 -0.38,2.7 ; 0.38,2.7 0.38,4.4 0.62,4.4 0.62,2.7 ; 1.38,2.7 1.38,4.4 1.62,4.4 1.62,2.7 ; 2.38,2.7 2.38,4.4 2.62,4.4 2.62,2.7 ; 3.38,2.7 3.38,4.4 3.62,4.4 3.62,2.7 ; 4.38,2.7 4.38,4.4 4.62,4.4 4.62,2.7 ; 5.38,2.7 5.38,4.4 5.62,4.4 5.62,2.7 ; 6.38,2.7 6.38,4.4 6.62,4.4 6.62,2.7 ; 7.38,2.7 7.38,4.4 7.62,4.4 7.62,2.7 ; 8.38,2.7 8.38,4.4 8.62,4.4 8.62,2.7 ; 9.38,2.7 9.38,4.4 9.62,4.4 9.62,2.7 ; 10.38,2.7 10.38,4.4 10.62,4.4 10.62,2.7 ; 11.38,2.7 11.38,4.4 11.62,4.4 11.62,2.7 ; -15.5,-2.7 15.5,-2.7 15.5,-1.6 14.5,-1.6 14.5,2.7 -14.5,2.7 -14.5,-1.6 -15.5,-1.6 -15.5,-2.7
Top Courtyard:
  lines w0.05: -0.5,0 0.5,0 ; 0,-0.5 0,0.5 ; -15.775,-2.975 -15.775,5.15 15.775,5.15 15.775,-2.975 -15.775,-2.975
3D body "68612414422.stp": height 3.02, standoff 0.01, extent -15.5,-2.7 15.5,4.4

## 68612614122 [mm] "ZIF Connectors, Horizontal, Top Contact, pitch 1mm, 26p"
height 3.15
pads (28):
  rect 0.6x2.2 smd: 1(-12.5,3.85) 2(-11.5,3.85) 3(-10.5,3.85) 4(-9.5,3.85) 5(-8.5,3.85) 6(-7.5,3.85) 7(-6.5,3.85) 8(-5.5,3.85) 9(-4.5,3.85) 10(-3.5,3.85) 11(-2.5,3.85) 12(-1.5,3.85) 13(-0.5,3.85) 14(0.5,3.85) 15(1.5,3.85) 16(2.5,3.85) 17(3.5,3.85) 18(4.5,3.85) 19(5.5,3.85) 20(6.5,3.85) 21(7.5,3.85) 22(8.5,3.85) 23(9.5,3.85) 24(10.5,3.85) 25(11.5,3.85) 26(12.5,3.85)
  rect 1.8x2.6 smd: M1(-15.1,1.45) M2(15.1,1.45)
Top Overlay:
  circle w0.25: c-13.45,3.7 r0.125
  lines w0.2: -15.5,-0.15 -15.5,-1.6 -16.575,-1.6 -16.575,-2.775 16.575,-2.775 16.575,-1.6 15.5,-1.6 15.5,-0.15 ; -13.9,2.775 -13.1,2.775 ; 13.1,2.775 13.9,2.775
Top Designator:
  text ".Designator" at -7.498,-0.5 h1.5
Top Component Outline:
  lines w0.1: -12.64,2.7 -12.64,4.4 -12.36,4.4 -12.36,2.7 ; -11.64,2.7 -11.64,4.4 -11.36,4.4 -11.36,2.7 ; -10.64,2.7 -10.64,4.4 -10.36,4.4 -10.36,2.7 ; -9.64,2.7 -9.64,4.4 -9.36,4.4 -9.36,2.7 ; -8.64,2.7 -8.64,4.4 -8.36,4.4 -8.36,2.7 ; -7.64,2.7 -7.64,4.4 -7.36,4.4 -7.36,2.7 ; -6.64,2.7 -6.64,4.4 -6.36,4.4 -6.36,2.7 ; -5.64,2.7 -5.64,4.4 -5.36,4.4 -5.36,2.7 ; -4.64,2.7 -4.64,4.4 -4.36,4.4 -4.36,2.7 ; -3.64,2.7 -3.64,4.4 -3.36,4.4 -3.36,2.7 ; -2.64,2.7 -2.64,4.4 -2.36,4.4 -2.36,2.7 ; -1.64,2.7 -1.64,4.4 -1.36,4.4 -1.36,2.7 ; -0.64,2.7 -0.64,4.4 -0.36,4.4 -0.36,2.7 ; 0.36,2.7 0.36,4.4 0.64,4.4 0.64,2.7 ; 1.36,2.7 1.36,4.4 1.64,4.4 1.64,2.7 ; 2.36,2.7 2.36,4.4 2.64,4.4 2.64,2.7 ; 3.36,2.7 3.36,4.4 3.64,4.4 3.64,2.7 ; 4.36,2.7 4.36,4.4 4.64,4.4 4.64,2.7 ; 5.36,2.7 5.36,4.4 5.64,4.4 5.64,2.7 ; 6.36,2.7 6.36,4.4 6.64,4.4 6.64,2.7 ; 7.36,2.7 7.36,4.4 7.64,4.4 7.64,2.7 ; 8.36,2.7 8.36,4.4 8.64,4.4 8.64,2.7 ; 9.36,2.7 9.36,4.4 9.64,4.4 9.64,2.7 ; 10.36,2.7 10.36,4.4 10.64,4.4 10.64,2.7 ; 11.36,2.7 11.36,4.4 11.64,4.4 11.64,2.7 ; 12.36,2.7 12.36,4.4 12.64,4.4 12.64,2.7 ; -16.5,-2.7 16.5,-2.7 16.5,-1.6 15.5,-1.6 15.5,2.7 -15.5,2.7 -15.5,-1.6 -16.5,-1.6 -16.5,-2.7
Top 3D Body:
  lines w0.1: -12.64,2.7 -12.64,4.4 -12.36,4.4 -12.36,2.7 ; -11.64,2.7 -11.64,4.4 -11.36,4.4 -11.36,2.7 ; -10.64,2.7 -10.64,4.4 -10.36,4.4 -10.36,2.7 ; -9.64,2.7 -9.64,4.4 -9.36,4.4 -9.36,2.7 ; -8.64,2.7 -8.64,4.4 -8.36,4.4 -8.36,2.7 ; -7.64,2.7 -7.64,4.4 -7.36,4.4 -7.36,2.7 ; -6.64,2.7 -6.64,4.4 -6.36,4.4 -6.36,2.7 ; -5.64,2.7 -5.64,4.4 -5.36,4.4 -5.36,2.7 ; -4.64,2.7 -4.64,4.4 -4.36,4.4 -4.36,2.7 ; -3.64,2.7 -3.64,4.4 -3.36,4.4 -3.36,2.7 ; -2.64,2.7 -2.64,4.4 -2.36,4.4 -2.36,2.7 ; -1.64,2.7 -1.64,4.4 -1.36,4.4 -1.36,2.7 ; -0.64,2.7 -0.64,4.4 -0.36,4.4 -0.36,2.7 ; 0.36,2.7 0.36,4.4 0.64,4.4 0.64,2.7 ; 1.36,2.7 1.36,4.4 1.64,4.4 1.64,2.7 ; 2.36,2.7 2.36,4.4 2.64,4.4 2.64,2.7 ; 3.36,2.7 3.36,4.4 3.64,4.4 3.64,2.7 ; 4.36,2.7 4.36,4.4 4.64,4.4 4.64,2.7 ; 5.36,2.7 5.36,4.4 5.64,4.4 5.64,2.7 ; 6.36,2.7 6.36,4.4 6.64,4.4 6.64,2.7 ; 7.36,2.7 7.36,4.4 7.64,4.4 7.64,2.7 ; 8.36,2.7 8.36,4.4 8.64,4.4 8.64,2.7 ; 9.36,2.7 9.36,4.4 9.64,4.4 9.64,2.7 ; 10.36,2.7 10.36,4.4 10.64,4.4 10.64,2.7 ; 11.36,2.7 11.36,4.4 11.64,4.4 11.64,2.7 ; 12.36,2.7 12.36,4.4 12.64,4.4 12.64,2.7 ; -16.5,-2.7 -16.5,-1.6 -15.5,-1.6 -15.5,2.7 15.5,2.7 15.5,-1.6 16.5,-1.6 16.5,-2.7 -16.5,-2.7
Top Courtyard:
  lines w0.05: -0.5,0 0.5,0 ; 0,-0.5 0,0.5 ; -16.775,-2.975 -16.775,5.15 16.775,5.15 16.775,-2.975 -16.775,-2.975
3D body "68612614122.stp": height 3.02, standoff 0.02, extent -16.5,-2.7 16.5,4.4

## 68612614422 [mm] "ZIF Connectors, Horizontal, Bottom Contact, pitch 1mm, 26p"
height 3.15
pads (28):
  rect 0.6x2.2 smd: 1(-12.5,3.85) 2(-11.5,3.85) 3(-10.5,3.85) 4(-9.5,3.85) 5(-8.5,3.85) 6(-7.5,3.85) 7(-6.5,3.85) 8(-5.5,3.85) 9(-4.5,3.85) 10(-3.5,3.85) 11(-2.5,3.85) 12(-1.5,3.85) 13(-0.5,3.85) 14(0.5,3.85) 15(1.5,3.85) 16(2.5,3.85) 17(3.5,3.85) 18(4.5,3.85) 19(5.5,3.85) 20(6.5,3.85) 21(7.5,3.85) 22(8.5,3.85) 23(9.5,3.85) 24(10.5,3.85) 25(11.5,3.85) 26(12.5,3.85)
  rect 1.8x2.6 smd: M1(-15.1,1.45) M2(15.1,1.45)
Top Overlay:
  circle w0.25: c-13.4,3.75 r0.125
  lines w0.2: -15.5,-0.15 -15.5,-1.6 -16.575,-1.6 -16.575,-2.775 16.575,-2.775 16.575,-1.6 15.5,-1.6 15.5,-0.15 ; -13.9,2.775 -13.1,2.775 ; 13.1,2.775 13.9,2.775
Top Designator:
  text ".Designator" at -7.498,-0.5 h1.5
Top Component Outline:
  lines w0.1: -12.62,2.7 -12.62,4.4 -12.38,4.4 -12.38,2.7 ; -11.62,2.7 -11.62,4.4 -11.38,4.4 -11.38,2.7 ; -10.62,2.7 -10.62,4.4 -10.38,4.4 -10.38,2.7 ; -9.62,2.7 -9.62,4.4 -9.38,4.4 -9.38,2.7 ; -8.62,2.7 -8.62,4.4 -8.38,4.4 -8.38,2.7 ; -7.62,2.7 -7.62,4.4 -7.38,4.4 -7.38,2.7 ; -6.62,2.7 -6.62,4.4 -6.38,4.4 -6.38,2.7 ; -5.62,2.7 -5.62,4.4 -5.38,4.4 -5.38,2.7 ; -4.62,2.7 -4.62,4.4 -4.38,4.4 -4.38,2.7 ; -3.62,2.7 -3.62,4.4 -3.38,4.4 -3.38,2.7 ; -2.62,2.7 -2.62,4.4 -2.38,4.4 -2.38,2.7 ; -1.62,2.7 -1.62,4.4 -1.38,4.4 -1.38,2.7 ; -0.62,2.7 -0.62,4.4 -0.38,4.4 -0.38,2.7 ; 0.38,2.7 0.38,4.4 0.62,4.4 0.62,2.7 ; 1.38,2.7 1.38,4.4 1.62,4.4 1.62,2.7 ; 2.38,2.7 2.38,4.4 2.62,4.4 2.62,2.7 ; 3.38,2.7 3.38,4.4 3.62,4.4 3.62,2.7 ; 4.38,2.7 4.38,4.4 4.62,4.4 4.62,2.7 ; 5.38,2.7 5.38,4.4 5.62,4.4 5.62,2.7 ; 6.38,2.7 6.38,4.4 6.62,4.4 6.62,2.7 ; 7.38,2.7 7.38,4.4 7.62,4.4 7.62,2.7 ; 8.38,2.7 8.38,4.4 8.62,4.4 8.62,2.7 ; 9.38,2.7 9.38,4.4 9.62,4.4 9.62,2.7 ; 10.38,2.7 10.38,4.4 10.62,4.4 10.62,2.7 ; 11.38,2.7 11.38,4.4 11.62,4.4 11.62,2.7 ; 12.38,2.7 12.38,4.4 12.62,4.4 12.62,2.7 ; -16.5,-2.7 16.5,-2.7 16.5,-1.6 15.5,-1.6 15.5,2.7 -15.5,2.7 -15.5,-1.6 -16.5,-1.6 -16.5,-2.7
Top 3D Body:
  lines w0.1: -12.62,2.7 -12.62,4.4 -12.38,4.4 -12.38,2.7 ; -11.62,2.7 -11.62,4.4 -11.38,4.4 -11.38,2.7 ; -10.62,2.7 -10.62,4.4 -10.38,4.4 -10.38,2.7 ; -9.62,2.7 -9.62,4.4 -9.38,4.4 -9.38,2.7 ; -8.62,2.7 -8.62,4.4 -8.38,4.4 -8.38,2.7 ; -7.62,2.7 -7.62,4.4 -7.38,4.4 -7.38,2.7 ; -6.62,2.7 -6.62,4.4 -6.38,4.4 -6.38,2.7 ; -5.62,2.7 -5.62,4.4 -5.38,4.4 -5.38,2.7 ; -4.62,2.7 -4.62,4.4 -4.38,4.4 -4.38,2.7 ; -3.62,2.7 -3.62,4.4 -3.38,4.4 -3.38,2.7 ; -2.62,2.7 -2.62,4.4 -2.38,4.4 -2.38,2.7 ; -1.62,2.7 -1.62,4.4 -1.38,4.4 -1.38,2.7 ; -0.62,2.7 -0.62,4.4 -0.38,4.4 -0.38,2.7 ; 0.38,2.7 0.38,4.4 0.62,4.4 0.62,2.7 ; 1.38,2.7 1.38,4.4 1.62,4.4 1.62,2.7 ; 2.38,2.7 2.38,4.4 2.62,4.4 2.62,2.7 ; 3.38,2.7 3.38,4.4 3.62,4.4 3.62,2.7 ; 4.38,2.7 4.38,4.4 4.62,4.4 4.62,2.7 ; 5.38,2.7 5.38,4.4 5.62,4.4 5.62,2.7 ; 6.38,2.7 6.38,4.4 6.62,4.4 6.62,2.7 ; 7.38,2.7 7.38,4.4 7.62,4.4 7.62,2.7 ; 8.38,2.7 8.38,4.4 8.62,4.4 8.62,2.7 ; 9.38,2.7 9.38,4.4 9.62,4.4 9.62,2.7 ; 10.38,2.7 10.38,4.4 10.62,4.4 10.62,2.7 ; 11.38,2.7 11.38,4.4 11.62,4.4 11.62,2.7 ; 12.38,2.7 12.38,4.4 12.62,4.4 12.62,2.7 ; -16.5,-2.7 -16.5,-1.6 -15.5,-1.6 -15.5,2.7 15.5,2.7 15.5,-1.6 16.5,-1.6 16.5,-2.7 -16.5,-2.7
Top Courtyard:
  lines w0.05: -0.5,0 0.5,0 ; 0,-0.5 0,0.5 ; -16.775,-2.975 16.775,-2.975 16.775,5.15 -16.775,5.15 -16.775,-2.975
3D body "68612614422.stp": height 3.02, standoff 0.01, extent -16.5,-2.7 16.5,4.4

## 68612814122 [mm] "ZIF Connectors, Horizontal, Top Contact, pitch 1mm, 28p"
height 3.15
pads (30):
  rect 0.6x2.2 smd: 1(-13.5,3.85) 2(-12.5,3.85) 3(-11.5,3.85) 4(-10.5,3.85) 5(-9.5,3.85) 6(-8.5,3.85) 7(-7.5,3.85) 8(-6.5,3.85) 9(-5.5,3.85) 10(-4.5,3.85) 11(-3.5,3.85) 12(-2.5,3.85) 13(-1.5,3.85) 14(-0.5,3.85) 15(0.5,3.85) 16(1.5,3.85) 17(2.5,3.85) 18(3.5,3.85) 19(4.5,3.85) 20(5.5,3.85) 21(6.5,3.85) 22(7.5,3.85) 23(8.5,3.85) 24(9.5,3.85) 25(10.5,3.85) 26(11.5,3.85) 27(12.5,3.85) 28(13.5,3.85)
  rect 1.8x2.6 smd: M1(-16.1,1.45) M2(16.1,1.45)
Top Overlay:
  circle w0.25: c-14.45,3.7 r0.125
  lines w0.2: -16.5,-0.15 -16.5,-1.6 -17.575,-1.6 -17.575,-2.775 17.575,-2.775 17.575,-1.6 16.5,-1.6 16.5,-0.15 ; -14.9,2.775 -14.1,2.775 ; 14.1,2.775 14.9,2.775
Top Designator:
  text ".Designator" at -7.498,-0.5 h1.5
Top Component Outline:
  lines w0.1: -13.64,2.7 -13.64,4.4 -13.36,4.4 -13.36,2.7 ; -12.64,2.7 -12.64,4.4 -12.36,4.4 -12.36,2.7 ; -11.64,2.7 -11.64,4.4 -11.36,4.4 -11.36,2.7 ; -10.64,2.7 -10.64,4.4 -10.36,4.4 -10.36,2.7 ; -9.64,2.7 -9.64,4.4 -9.36,4.4 -9.36,2.7 ; -8.64,2.7 -8.64,4.4 -8.36,4.4 -8.36,2.7 ; -7.64,2.7 -7.64,4.4 -7.36,4.4 -7.36,2.7 ; -6.64,2.7 -6.64,4.4 -6.36,4.4 -6.36,2.7 ; -5.64,2.7 -5.64,4.4 -5.36,4.4 -5.36,2.7 ; -4.64,2.7 -4.64,4.4 -4.36,4.4 -4.36,2.7 ; -3.64,2.7 -3.64,4.4 -3.36,4.4 -3.36,2.7 ; -2.64,2.7 -2.64,4.4 -2.36,4.4 -2.36,2.7 ; -1.64,2.7 -1.64,4.4 -1.36,4.4 -1.36,2.7 ; -0.64,2.7 -0.64,4.4 -0.36,4.4 -0.36,2.7 ; 0.36,2.7 0.36,4.4 0.64,4.4 0.64,2.7 ; 1.36,2.7 1.36,4.4 1.64,4.4 1.64,2.7 ; 2.36,2.7 2.36,4.4 2.64,4.4 2.64,2.7 ; 3.36,2.7 3.36,4.4 3.64,4.4 3.64,2.7 ; 4.36,2.7 4.36,4.4 4.64,4.4 4.64,2.7 ; 5.36,2.7 5.36,4.4 5.64,4.4 5.64,2.7 ; 6.36,2.7 6.36,4.4 6.64,4.4 6.64,2.7 ; 7.36,2.7 7.36,4.4 7.64,4.4 7.64,2.7 ; 8.36,2.7 8.36,4.4 8.64,4.4 8.64,2.7 ; 9.36,2.7 9.36,4.4 9.64,4.4 9.64,2.7 ; 10.36,2.7 10.36,4.4 10.64,4.4 10.64,2.7 ; 11.36,2.7 11.36,4.4 11.64,4.4 11.64,2.7 ; 12.36,2.7 12.36,4.4 12.64,4.4 12.64,2.7 ; 13.36,2.7 13.36,4.4 13.64,4.4 13.64,2.7 ; -17.5,-2.7 -17.5,-1.6 -16.5,-1.6 -16.5,2.7 16.5,2.7 16.5,-1.6 17.5,-1.6 17.5,-2.7 -17.5,-2.7
Top 3D Body:
  lines w0.1: -13.64,2.7 -13.64,4.4 -13.36,4.4 -13.36,2.7 ; -12.64,2.7 -12.64,4.4 -12.36,4.4 -12.36,2.7 ; -11.64,2.7 -11.64,4.4 -11.36,4.4 -11.36,2.7 ; -10.64,2.7 -10.64,4.4 -10.36,4.4 -10.36,2.7 ; -9.64,2.7 -9.64,4.4 -9.36,4.4 -9.36,2.7 ; -8.64,2.7 -8.64,4.4 -8.36,4.4 -8.36,2.7 ; -7.64,2.7 -7.64,4.4 -7.36,4.4 -7.36,2.7 ; -6.64,2.7 -6.64,4.4 -6.36,4.4 -6.36,2.7 ; -5.64,2.7 -5.64,4.4 -5.36,4.4 -5.36,2.7 ; -4.64,2.7 -4.64,4.4 -4.36,4.4 -4.36,2.7 ; -3.64,2.7 -3.64,4.4 -3.36,4.4 -3.36,2.7 ; -2.64,2.7 -2.64,4.4 -2.36,4.4 -2.36,2.7 ; -1.64,2.7 -1.64,4.4 -1.36,4.4 -1.36,2.7 ; -0.64,2.7 -0.64,4.4 -0.36,4.4 -0.36,2.7 ; 0.36,2.7 0.36,4.4 0.64,4.4 0.64,2.7 ; 1.36,2.7 1.36,4.4 1.64,4.4 1.64,2.7 ; 2.36,2.7 2.36,4.4 2.64,4.4 2.64,2.7 ; 3.36,2.7 3.36,4.4 3.64,4.4 3.64,2.7 ; 4.36,2.7 4.36,4.4 4.64,4.4 4.64,2.7 ; 5.36,2.7 5.36,4.4 5.64,4.4 5.64,2.7 ; 6.36,2.7 6.36,4.4 6.64,4.4 6.64,2.7 ; 7.36,2.7 7.36,4.4 7.64,4.4 7.64,2.7 ; 8.36,2.7 8.36,4.4 8.64,4.4 8.64,2.7 ; 9.36,2.7 9.36,4.4 9.64,4.4 9.64,2.7 ; 10.36,2.7 10.36,4.4 10.64,4.4 10.64,2.7 ; 11.36,2.7 11.36,4.4 11.64,4.4 11.64,2.7 ; 12.36,2.7 12.36,4.4 12.64,4.4 12.64,2.7 ; 13.36,2.7 13.36,4.4 13.64,4.4 13.64,2.7 ; -17.5,-2.7 17.5,-2.7 17.5,-1.6 16.5,-1.6 16.5,2.7 -16.5,2.7 -16.5,-1.6 -17.5,-1.6 -17.5,-2.7
Top Courtyard:
  lines w0.05: -0.5,0 0.5,0 ; 0,-0.5 0,0.5 ; -17.775,-2.975 17.775,-2.975 17.775,5.15 -17.775,5.15 -17.775,-2.975
3D body "68612814122.stp": height 3.02, standoff 0.02, extent -17.5,-2.7 17.5,4.4

## 68612814422 [mm] "ZIF Connectors, Horizontal, Bottom Contact, pitch 1mm, 28p"
height 3.15
pads (30):
  rect 0.6x2.2 smd: 1(-13.5,3.85) 2(-12.5,3.85) 3(-11.5,3.85) 4(-10.5,3.85) 5(-9.5,3.85) 6(-8.5,3.85) 7(-7.5,3.85) 8(-6.5,3.85) 9(-5.5,3.85) 10(-4.5,3.85) 11(-3.5,3.85) 12(-2.5,3.85) 13(-1.5,3.85) 14(-0.5,3.85) 15(0.5,3.85) 16(1.5,3.85) 17(2.5,3.85) 18(3.5,3.85) 19(4.5,3.85) 20(5.5,3.85) 21(6.5,3.85) 22(7.5,3.85) 23(8.5,3.85) 24(9.5,3.85) 25(10.5,3.85) 26(11.5,3.85) 27(12.5,3.85) 28(13.5,3.85)
  rect 1.8x2.6 smd: M1(-16.1,1.45) M2(16.1,1.45)
Top Overlay:
  circle w0.25: c-14.4,3.75 r0.125
  lines w0.2: -16.5,-0.15 -16.5,-1.6 -17.575,-1.6 -17.575,-2.775 17.575,-2.775 17.575,-1.6 16.5,-1.6 16.5,-0.15 ; -14.9,2.775 -14.1,2.775 ; 14.1,2.775 14.9,2.775
Top Designator:
  text ".Designator" at -7.498,-0.5 h1.5
Top Component Outline:
  lines w0.1: -13.62,2.7 -13.62,4.4 -13.38,4.4 -13.38,2.7 ; -12.62,2.7 -12.62,4.4 -12.38,4.4 -12.38,2.7 ; -11.62,2.7 -11.62,4.4 -11.38,4.4 -11.38,2.7 ; -10.62,2.7 -10.62,4.4 -10.38,4.4 -10.38,2.7 ; -9.62,2.7 -9.62,4.4 -9.38,4.4 -9.38,2.7 ; -8.62,2.7 -8.62,4.4 -8.38,4.4 -8.38,2.7 ; -7.62,2.7 -7.62,4.4 -7.38,4.4 -7.38,2.7 ; -6.62,2.7 -6.62,4.4 -6.38,4.4 -6.38,2.7 ; -5.62,2.7 -5.62,4.4 -5.38,4.4 -5.38,2.7 ; -4.62,2.7 -4.62,4.4 -4.38,4.4 -4.38,2.7 ; -3.62,2.7 -3.62,4.4 -3.38,4.4 -3.38,2.7 ; -2.62,2.7 -2.62,4.4 -2.38,4.4 -2.38,2.7 ; -1.62,2.7 -1.62,4.4 -1.38,4.4 -1.38,2.7 ; -0.62,2.7 -0.62,4.4 -0.38,4.4 -0.38,2.7 ; 0.38,2.7 0.38,4.4 0.62,4.4 0.62,2.7 ; 1.38,2.7 1.38,4.4 1.62,4.4 1.62,2.7 ; 2.38,2.7 2.38,4.4 2.62,4.4 2.62,2.7 ; 3.38,2.7 3.38,4.4 3.62,4.4 3.62,2.7 ; 4.38,2.7 4.38,4.4 4.62,4.4 4.62,2.7 ; 5.38,2.7 5.38,4.4 5.62,4.4 5.62,2.7 ; 6.38,2.7 6.38,4.4 6.62,4.4 6.62,2.7 ; 7.38,2.7 7.38,4.4 7.62,4.4 7.62,2.7 ; 8.38,2.7 8.38,4.4 8.62,4.4 8.62,2.7 ; 9.38,2.7 9.38,4.4 9.62,4.4 9.62,2.7 ; 10.38,2.7 10.38,4.4 10.62,4.4 10.62,2.7 ; 11.38,2.7 11.38,4.4 11.62,4.4 11.62,2.7 ; 12.38,2.7 12.38,4.4 12.62,4.4 12.62,2.7 ; 13.38,2.7 13.38,4.4 13.62,4.4 13.62,2.7 ; -17.5,-2.7 17.5,-2.7 17.5,-1.6 16.5,-1.6 16.5,2.7 -16.5,2.7 -16.5,-1.6 -17.5,-1.6 -17.5,-2.7
Top 3D Body:
  lines w0.1: -13.62,2.7 -13.62,4.4 -13.38,4.4 -13.38,2.7 ; -12.62,2.7 -12.62,4.4 -12.38,4.4 -12.38,2.7 ; -11.62,2.7 -11.62,4.4 -11.38,4.4 -11.38,2.7 ; -10.62,2.7 -10.62,4.4 -10.38,4.4 -10.38,2.7 ; -9.62,2.7 -9.62,4.4 -9.38,4.4 -9.38,2.7 ; -8.62,2.7 -8.62,4.4 -8.38,4.4 -8.38,2.7 ; -7.62,2.7 -7.62,4.4 -7.38,4.4 -7.38,2.7 ; -6.62,2.7 -6.62,4.4 -6.38,4.4 -6.38,2.7 ; -5.62,2.7 -5.62,4.4 -5.38,4.4 -5.38,2.7 ; -4.62,2.7 -4.62,4.4 -4.38,4.4 -4.38,2.7 ; -3.62,2.7 -3.62,4.4 -3.38,4.4 -3.38,2.7 ; -2.62,2.7 -2.62,4.4 -2.38,4.4 -2.38,2.7 ; -1.62,2.7 -1.62,4.4 -1.38,4.4 -1.38,2.7 ; -0.62,2.7 -0.62,4.4 -0.38,4.4 -0.38,2.7 ; 0.38,2.7 0.38,4.4 0.62,4.4 0.62,2.7 ; 1.38,2.7 1.38,4.4 1.62,4.4 1.62,2.7 ; 2.38,2.7 2.38,4.4 2.62,4.4 2.62,2.7 ; 3.38,2.7 3.38,4.4 3.62,4.4 3.62,2.7 ; 4.38,2.7 4.38,4.4 4.62,4.4 4.62,2.7 ; 5.38,2.7 5.38,4.4 5.62,4.4 5.62,2.7 ; 6.38,2.7 6.38,4.4 6.62,4.4 6.62,2.7 ; 7.38,2.7 7.38,4.4 7.62,4.4 7.62,2.7 ; 8.38,2.7 8.38,4.4 8.62,4.4 8.62,2.7 ; 9.38,2.7 9.38,4.4 9.62,4.4 9.62,2.7 ; 10.38,2.7 10.38,4.4 10.62,4.4 10.62,2.7 ; 11.38,2.7 11.38,4.4 11.62,4.4 11.62,2.7 ; 12.38,2.7 12.38,4.4 12.62,4.4 12.62,2.7 ; 13.38,2.7 13.38,4.4 13.62,4.4 13.62,2.7 ; -17.5,-2.7 -17.5,-1.6 -16.5,-1.6 -16.5,2.7 16.5,2.7 16.5,-1.6 17.5,-1.6 17.5,-2.7 -17.5,-2.7
Top Courtyard:
  lines w0.05: -0.5,0 0.5,0 ; 0,-0.5 0,0.5 ; -17.775,-2.975 17.775,-2.975 17.775,5.15 -17.775,5.15 -17.775,-2.975
3D body "68612814422.stp": height 3.02, standoff 0.01, extent -17.5,-2.7 17.5,4.4

## 68613014122 [mm] "ZIF Connectors, Horizontal, Top Contact, pitch 1mm, 30p"
height 3.15
pads (32):
  rect 0.6x2.2 smd: 1(-14.5,3.85) 2(-13.5,3.85) 3(-12.5,3.85) 4(-11.5,3.85) 5(-10.5,3.85) 6(-9.5,3.85) 7(-8.5,3.85) 8(-7.5,3.85) 9(-6.5,3.85) 10(-5.5,3.85) 11(-4.5,3.85) 12(-3.5,3.85) 13(-2.5,3.85) 14(-1.5,3.85) 15(-0.5,3.85) 16(0.5,3.85) 17(1.5,3.85) 18(2.5,3.85) 19(3.5,3.85) 20(4.5,3.85) 21(5.5,3.85) 22(6.5,3.85) 23(7.5,3.85) 24(8.5,3.85) 25(9.5,3.85) 26(10.5,3.85) 27(11.5,3.85) 28(12.5,3.85) 29(13.5,3.85) 30(14.5,3.85)
  rect 1.8x2.6 smd: M1(-17.1,1.45) M2(17.1,1.45)
Top Overlay:
  circle w0.25: c-15.45,3.7 r0.125
  lines w0.2: -17.5,-0.15 -17.5,-1.6 -18.575,-1.6 -18.575,-2.775 18.575,-2.775 18.575,-1.6 17.5,-1.6 17.5,-0.15 ; -15.9,2.775 -15.1,2.775 ; 15.1,2.775 15.9,2.775
Top Designator:
  text ".Designator" at -7.498,-0.5 h1.5
Top Component Outline:
  lines w0.1: -14.64,2.7 -14.64,4.4 -14.36,4.4 -14.36,2.7 ; -13.64,2.7 -13.64,4.4 -13.36,4.4 -13.36,2.7 ; -12.64,2.7 -12.64,4.4 -12.36,4.4 -12.36,2.7 ; -11.64,2.7 -11.64,4.4 -11.36,4.4 -11.36,2.7 ; -10.64,2.7 -10.64,4.4 -10.36,4.4 -10.36,2.7 ; -9.64,2.7 -9.64,4.4 -9.36,4.4 -9.36,2.7 ; -8.64,2.7 -8.64,4.4 -8.36,4.4 -8.36,2.7 ; -7.64,2.7 -7.64,4.4 -7.36,4.4 -7.36,2.7 ; -6.64,2.7 -6.64,4.4 -6.36,4.4 -6.36,2.7 ; -5.64,2.7 -5.64,4.4 -5.36,4.4 -5.36,2.7 ; -4.64,2.7 -4.64,4.4 -4.36,4.4 -4.36,2.7 ; -3.64,2.7 -3.64,4.4 -3.36,4.4 -3.36,2.7 ; -2.64,2.7 -2.64,4.4 -2.36,4.4 -2.36,2.7 ; -1.64,2.7 -1.64,4.4 -1.36,4.4 -1.36,2.7 ; -0.64,2.7 -0.64,4.4 -0.36,4.4 -0.36,2.7 ; 0.36,2.7 0.36,4.4 0.64,4.4 0.64,2.7 ; 1.36,2.7 1.36,4.4 1.64,4.4 1.64,2.7 ; 2.36,2.7 2.36,4.4 2.64,4.4 2.64,2.7 ; 3.36,2.7 3.36,4.4 3.64,4.4 3.64,2.7 ; 4.36,2.7 4.36,4.4 4.64,4.4 4.64,2.7 ; 5.36,2.7 5.36,4.4 5.64,4.4 5.64,2.7 ; 6.36,2.7 6.36,4.4 6.64,4.4 6.64,2.7 ; 7.36,2.7 7.36,4.4 7.64,4.4 7.64,2.7 ; 8.36,2.7 8.36,4.4 8.64,4.4 8.64,2.7 ; 9.36,2.7 9.36,4.4 9.64,4.4 9.64,2.7 ; 10.36,2.7 10.36,4.4 10.64,4.4 10.64,2.7 ; 11.36,2.7 11.36,4.4 11.64,4.4 11.64,2.7 ; 12.36,2.7 12.36,4.4 12.64,4.4 12.64,2.7 ; 13.36,2.7 13.36,4.4 13.64,4.4 13.64,2.7 ; 14.36,2.7 14.36,4.4 14.64,4.4 14.64,2.7 ; -18.5,-2.7 -18.5,-1.6 -17.5,-1.6 -17.5,2.7 17.5,2.7 17.5,-1.6 18.5,-1.6 18.5,-2.7 -18.5,-2.7
Top 3D Body:
  lines w0.1: -14.64,2.7 -14.64,4.4 -14.36,4.4 -14.36,2.7 ; -13.64,2.7 -13.64,4.4 -13.36,4.4 -13.36,2.7 ; -12.64,2.7 -12.64,4.4 -12.36,4.4 -12.36,2.7 ; -11.64,2.7 -11.64,4.4 -11.36,4.4 -11.36,2.7 ; -10.64,2.7 -10.64,4.4 -10.36,4.4 -10.36,2.7 ; -9.64,2.7 -9.64,4.4 -9.36,4.4 -9.36,2.7 ; -8.64,2.7 -8.64,4.4 -8.36,4.4 -8.36,2.7 ; -7.64,2.7 -7.64,4.4 -7.36,4.4 -7.36,2.7 ; -6.64,2.7 -6.64,4.4 -6.36,4.4 -6.36,2.7 ; -5.64,2.7 -5.64,4.4 -5.36,4.4 -5.36,2.7 ; -4.64,2.7 -4.64,4.4 -4.36,4.4 -4.36,2.7 ; -3.64,2.7 -3.64,4.4 -3.36,4.4 -3.36,2.7 ; -2.64,2.7 -2.64,4.4 -2.36,4.4 -2.36,2.7 ; -1.64,2.7 -1.64,4.4 -1.36,4.4 -1.36,2.7 ; -0.64,2.7 -0.64,4.4 -0.36,4.4 -0.36,2.7 ; 0.36,2.7 0.36,4.4 0.64,4.4 0.64,2.7 ; 1.36,2.7 1.36,4.4 1.64,4.4 1.64,2.7 ; 2.36,2.7 2.36,4.4 2.64,4.4 2.64,2.7 ; 3.36,2.7 3.36,4.4 3.64,4.4 3.64,2.7 ; 4.36,2.7 4.36,4.4 4.64,4.4 4.64,2.7 ; 5.36,2.7 5.36,4.4 5.64,4.4 5.64,2.7 ; 6.36,2.7 6.36,4.4 6.64,4.4 6.64,2.7 ; 7.36,2.7 7.36,4.4 7.64,4.4 7.64,2.7 ; 8.36,2.7 8.36,4.4 8.64,4.4 8.64,2.7 ; 9.36,2.7 9.36,4.4 9.64,4.4 9.64,2.7 ; 10.36,2.7 10.36,4.4 10.64,4.4 10.64,2.7 ; 11.36,2.7 11.36,4.4 11.64,4.4 11.64,2.7 ; 12.36,2.7 12.36,4.4 12.64,4.4 12.64,2.7 ; 13.36,2.7 13.36,4.4 13.64,4.4 13.64,2.7 ; 14.36,2.7 14.36,4.4 14.64,4.4 14.64,2.7 ; -18.5,-2.7 18.5,-2.7 18.5,-1.6 17.5,-1.6 17.5,2.7 -17.5,2.7 -17.5,-1.6 -18.5,-1.6 -18.5,-2.7
Top Courtyard:
  lines w0.05: -0.5,0 0.5,0 ; 0,-0.5 0,0.5 ; -18.775,-2.975 18.775,-2.975 18.775,5.15 -18.775,5.15 -18.775,-2.975
3D body "68613014122.stp": height 3.02, standoff 0.02, extent -18.5,-2.7 18.5,4.4